# Altium schematic symbol library CRISTAL.Schlib: 1 symbol
Pins are listed as number, name and electrical type; pins without a type are passive.

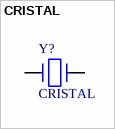
[diagram p0: symbol CRISTAL]

## CRISTAL
designator Y?
pins: 1, 2 10